# Altium footprint library bluetoothSerial_header.PcbLib: 1 footprints
Each footprint in its own frame and in the unit in brackets; x right, y up, seen from the top. Pads: shape width x height; smd on the part's side, far side on the other; paste and mask are expansions set on the pad; w line width, h text height; cw(c..) or ccw(c..) is an arc to the next point about the centre after c.
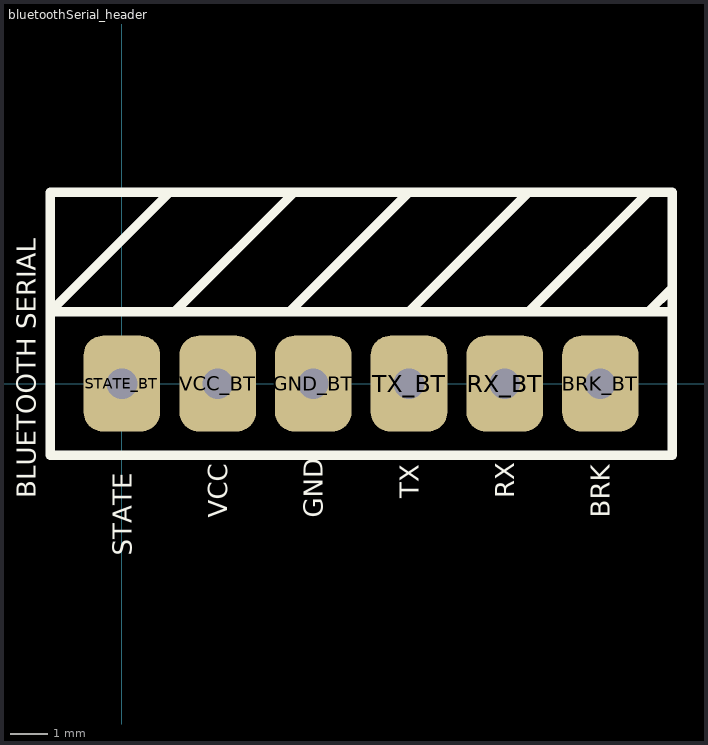
[diagram p0: the footprint, top view; thin cyan lines are the x and y axes]

## bluetoothSerial_header [mil]
pads (6):
  rrect50% 80x100 hole 32: BRK_BT(500,0) GND_BT(200,0) RX_BT(400,0) STATE_BT(0,0) TX_BT(300,0) VCC_BT(100,0)
Top Overlay:
  lines w9.84: 50,75 55,75 180,200 ; 50,200 -75,75 575,75 ; 175,75 300,200 ; 300,75 425,200 ; 425,75 550,200 ; 550,75 575,100 ; -75,-75 575,-75 575,200 -75,200 -75,-75
  text "BLUETOOTH SERIAL" at -90,-120 h20
  text "STATE" at 10,-180 h20
  text "VCC" at 110,-140 h20
  text "GND" at 210,-140 h20
  text "TX" at 310,-120 h20
  text "RX" at 410,-120 h20
  text "BRK" at 510,-140 h20